# EAGLE library part XC7A15T-2CSG324C (library fpga)
7 Series FPGA, IC FPGA ARTIX7 210 I/O 324CSBGA Source: Datasheet <http://www.xilinx.com/support/documentation/data_sheets/ds180_7Series_Overview.pdf>
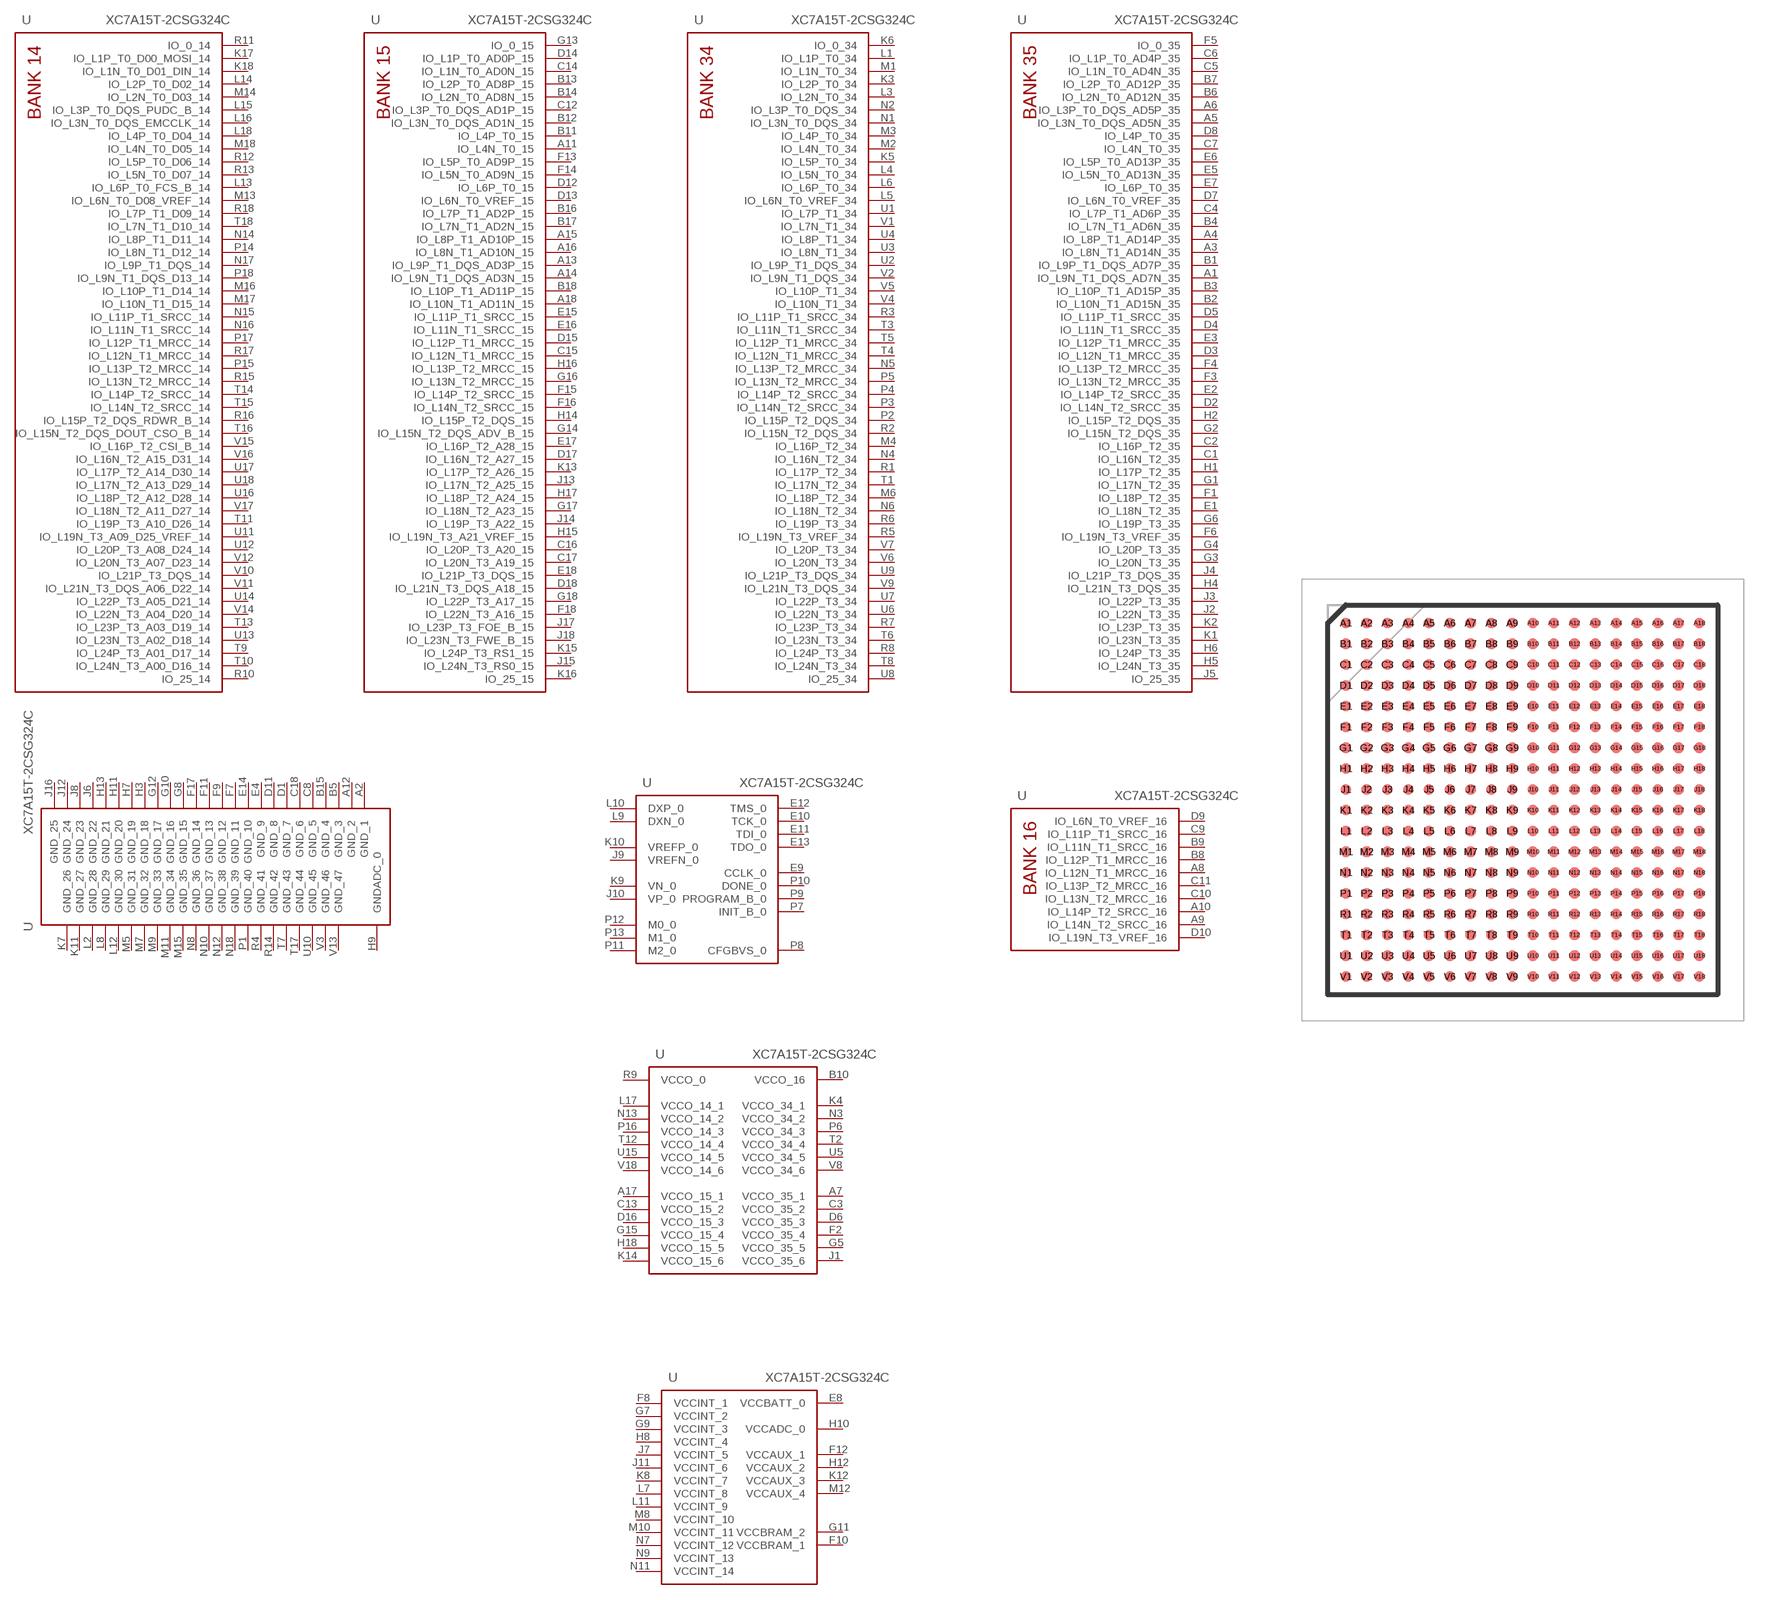
[diagram p3: symbol with the pads of BGA324C80P18X18_1500X1500X150; footprint BGA324C80P18X18_1500X1500X150]

Designator prefix U

## XC7A15T-2CSG324C (DESCRIPTION: 7 Series FPGA, IC FPGA ARTIX7 210 I/O 324CSBGA; HEIGHT: 1.5mm; MANUFACTURER_NAME: XILINX; MANUFACTURER_PART_NUMBER: XC7A15T-2CSG324C; MOUSER_PART_NUMBER: 217-XC7A15T-2CSG324C; MOUSER_PRICE-STOCK: https://www.mouser.co.uk/ProductDetail/Xilinx/XC7A15T-2CSG324C/?qs=rrS6PyfT74c948tSal%2FbhQ%3D%3D)  [BGA324C80P18X18_1500X1500X150]
A1  IO_L9N_T1_DQS_AD7N_35
A2  GND_1
A3  IO_L8N_T1_AD14N_35
A4  IO_L8P_T1_AD14P_35
A5  IO_L3N_T0_DQS_AD5N_35
A6  IO_L3P_T0_DQS_AD5P_35
A7  VCCO_35_1
A8  IO_L12N_T1_MRCC_16
A9  IO_L14N_T2_SRCC_16
A10  IO_L14P_T2_SRCC_16
A11  IO_L4N_T0_15
A12  GND_2
A13  IO_L9P_T1_DQS_AD3P_15
A14  IO_L9N_T1_DQS_AD3N_15
A15  IO_L8P_T1_AD10P_15
A16  IO_L8N_T1_AD10N_15
A17  VCCO_15_1
A18  IO_L10N_T1_AD11N_15
B1  IO_L9P_T1_DQS_AD7P_35
B2  IO_L10N_T1_AD15N_35
B3  IO_L10P_T1_AD15P_35
B4  IO_L7N_T1_AD6N_35
B5  GND_3
B6  IO_L2N_T0_AD12N_35
B7  IO_L2P_T0_AD12P_35
B8  IO_L12P_T1_MRCC_16
B9  IO_L11N_T1_SRCC_16
B10  VCCO_16
B11  IO_L4P_T0_15
B12  IO_L3N_T0_DQS_AD1N_15
B13  IO_L2P_T0_AD8P_15
B14  IO_L2N_T0_AD8N_15
B15  GND_4
B16  IO_L7P_T1_AD2P_15
B17  IO_L7N_T1_AD2N_15
B18  IO_L10P_T1_AD11P_15
C1  IO_L16N_T2_35
C2  IO_L16P_T2_35
C3  VCCO_35_2
C4  IO_L7P_T1_AD6P_35
C5  IO_L1N_T0_AD4N_35
C6  IO_L1P_T0_AD4P_35
C7  IO_L4N_T0_35
C8  GND_5
C9  IO_L11P_T1_SRCC_16
C10  IO_L13N_T2_MRCC_16
C11  IO_L13P_T2_MRCC_16
C12  IO_L3P_T0_DQS_AD1P_15
C13  VCCO_15_2
C14  IO_L1N_T0_AD0N_15
C15  IO_L12N_T1_MRCC_15
C16  IO_L20P_T3_A20_15
C17  IO_L20N_T3_A19_15
C18  GND_6
D1  GND_7
D2  IO_L14N_T2_SRCC_35
D3  IO_L12N_T1_MRCC_35
D4  IO_L11N_T1_SRCC_35
D5  IO_L11P_T1_SRCC_35
D6  VCCO_35_3
D7  IO_L6N_T0_VREF_35
D8  IO_L4P_T0_35
D9  IO_L6N_T0_VREF_16
D10  IO_L19N_T3_VREF_16
D11  GND_8
D12  IO_L6P_T0_15
D13  IO_L6N_T0_VREF_15
D14  IO_L1P_T0_AD0P_15
D15  IO_L12P_T1_MRCC_15
D16  VCCO_15_3
D17  IO_L16N_T2_A27_15
D18  IO_L21N_T3_DQS_A18_15
E1  IO_L18N_T2_35
E2  IO_L14P_T2_SRCC_35
E3  IO_L12P_T1_MRCC_35
E4  GND_9
E5  IO_L5N_T0_AD13N_35
E6  IO_L5P_T0_AD13P_35
E7  IO_L6P_T0_35
E8  VCCBATT_0
E9  CCLK_0
E10  TCK_0
E11  TDI_0
E12  TMS_0
E13  TDO_0
E14  GND_10
E15  IO_L11P_T1_SRCC_15
E16  IO_L11N_T1_SRCC_15
E17  IO_L16P_T2_A28_15
E18  IO_L21P_T3_DQS_15
F1  IO_L18P_T2_35
F2  VCCO_35_4
F3  IO_L13N_T2_MRCC_35
F4  IO_L13P_T2_MRCC_35
F5  IO_0_35
F6  IO_L19N_T3_VREF_35
F7  GND_11
F8  VCCINT_1
F9  GND_12
F10  VCCBRAM_1
F11  GND_13
F12  VCCAUX_1
F13  IO_L5P_T0_AD9P_15
F14  IO_L5N_T0_AD9N_15
F15  IO_L14P_T2_SRCC_15
F16  IO_L14N_T2_SRCC_15
F17  GND_14
F18  IO_L22N_T3_A16_15
G1  IO_L17N_T2_35
G2  IO_L15N_T2_DQS_35
G3  IO_L20N_T3_35
G4  IO_L20P_T3_35
G5  VCCO_35_5
G6  IO_L19P_T3_35
G7  VCCINT_2
G8  GND_15
G9  VCCINT_3
G10  GND_16
G11  VCCBRAM_2
G12  GND_17
G13  IO_0_15
G14  IO_L15N_T2_DQS_ADV_B_15
G15  VCCO_15_4
G16  IO_L13N_T2_MRCC_15
G17  IO_L18N_T2_A23_15
G18  IO_L22P_T3_A17_15
H1  IO_L17P_T2_35
H2  IO_L15P_T2_DQS_35
H3  GND_18
H4  IO_L21N_T3_DQS_35
H5  IO_L24N_T3_35
H6  IO_L24P_T3_35
H7  GND_19
H8  VCCINT_4
H9  GNDADC_0
H10  VCCADC_0
H11  GND_20
H12  VCCAUX_2
H13  GND_21
H14  IO_L15P_T2_DQS_15
H15  IO_L19N_T3_A21_VREF_15
H16  IO_L13P_T2_MRCC_15
H17  IO_L18P_T2_A24_15
H18  VCCO_15_5
J1  VCCO_35_6
J2  IO_L22N_T3_35
J3  IO_L22P_T3_35
J4  IO_L21P_T3_DQS_35
J5  IO_25_35
J6  GND_22
J7  VCCINT_5
J8  GND_23
J9  VREFN_0
J10  VP_0
J11  VCCINT_6
J12  GND_24
J13  IO_L17N_T2_A25_15
J14  IO_L19P_T3_A22_15
J15  IO_L24N_T3_RS0_15
J16  GND_25
J17  IO_L23P_T3_FOE_B_15
J18  IO_L23N_T3_FWE_B_15
K1  IO_L23N_T3_35
K2  IO_L23P_T3_35
K3  IO_L2P_T0_34
K4  VCCO_34_1
K5  IO_L5P_T0_34
K6  IO_0_34
K7  GND_26
K8  VCCINT_7
K9  VN_0
K10  VREFP_0
K11  GND_27
K12  VCCAUX_3
K13  IO_L17P_T2_A26_15
K14  VCCO_15_6
K15  IO_L24P_T3_RS1_15
K16  IO_25_15
K17  IO_L1P_T0_D00_MOSI_14
K18  IO_L1N_T0_D01_DIN_14
L1  IO_L1P_T0_34
L2  GND_28
L3  IO_L2N_T0_34
L4  IO_L5N_T0_34
L5  IO_L6N_T0_VREF_34
L6  IO_L6P_T0_34
L7  VCCINT_8
L8  GND_29
L9  DXN_0
L10  DXP_0
L11  VCCINT_9
L12  GND_30
L13  IO_L6P_T0_FCS_B_14
L14  IO_L2P_T0_D02_14
L15  IO_L3P_T0_DQS_PUDC_B_14
L16  IO_L3N_T0_DQS_EMCCLK_14
L17  VCCO_14_1
L18  IO_L4P_T0_D04_14
M1  IO_L1N_T0_34
M2  IO_L4N_T0_34
M3  IO_L4P_T0_34
M4  IO_L16P_T2_34
M5  GND_31
M6  IO_L18P_T2_34
M7  GND_32
M8  VCCINT_10
M9  GND_33
M10  VCCINT_11
M11  GND_34
M12  VCCAUX_4
M13  IO_L6N_T0_D08_VREF_14
M14  IO_L2N_T0_D03_14
M15  GND_35
M16  IO_L10P_T1_D14_14
M17  IO_L10N_T1_D15_14
M18  IO_L4N_T0_D05_14
N1  IO_L3N_T0_DQS_34
N2  IO_L3P_T0_DQS_34
N3  VCCO_34_2
N4  IO_L16N_T2_34
N5  IO_L13P_T2_MRCC_34
N6  IO_L18N_T2_34
N7  VCCINT_12
N8  GND_36
N9  VCCINT_13
N10  GND_37
N11  VCCINT_14
N12  GND_38
N13  VCCO_14_2
N14  IO_L8P_T1_D11_14
N15  IO_L11P_T1_SRCC_14
N16  IO_L11N_T1_SRCC_14
N17  IO_L9P_T1_DQS_14
N18  GND_39
P1  GND_40
P2  IO_L15P_T2_DQS_34
P3  IO_L14N_T2_SRCC_34
P4  IO_L14P_T2_SRCC_34
P5  IO_L13N_T2_MRCC_34
P6  VCCO_34_3
P7  INIT_B_0
P8  CFGBVS_0
P9  PROGRAM_B_0
P10  DONE_0
P11  M2_0
P12  M0_0
P13  M1_0
P14  IO_L8N_T1_D12_14
P15  IO_L13P_T2_MRCC_14
P16  VCCO_14_3
P17  IO_L12P_T1_MRCC_14
P18  IO_L9N_T1_DQS_D13_14
R1  IO_L17P_T2_34
R2  IO_L15N_T2_DQS_34
R3  IO_L11P_T1_SRCC_34
R4  GND_41
R5  IO_L19N_T3_VREF_34
R6  IO_L19P_T3_34
R7  IO_L23P_T3_34
R8  IO_L24P_T3_34
R9  VCCO_0
R10  IO_25_14
R11  IO_0_14
R12  IO_L5P_T0_D06_14
R13  IO_L5N_T0_D07_14
R14  GND_42
R15  IO_L13N_T2_MRCC_14
R16  IO_L15P_T2_DQS_RDWR_B_14
R17  IO_L12N_T1_MRCC_14
R18  IO_L7P_T1_D09_14
T1  IO_L17N_T2_34
T2  VCCO_34_4
T3  IO_L11N_T1_SRCC_34
T4  IO_L12N_T1_MRCC_34
T5  IO_L12P_T1_MRCC_34
T6  IO_L23N_T3_34
T7  GND_43
T8  IO_L24N_T3_34
T9  IO_L24P_T3_A01_D17_14
T10  IO_L24N_T3_A00_D16_14
T11  IO_L19P_T3_A10_D26_14
T12  VCCO_14_4
T13  IO_L23P_T3_A03_D19_14
T14  IO_L14P_T2_SRCC_14
T15  IO_L14N_T2_SRCC_14
T16  IO_L15N_T2_DQS_DOUT_CSO_B_14
T17  GND_44
T18  IO_L7N_T1_D10_14
U1  IO_L7P_T1_34
U2  IO_L9P_T1_DQS_34
U3  IO_L8N_T1_34
U4  IO_L8P_T1_34
U5  VCCO_34_5
U6  IO_L22N_T3_34
U7  IO_L22P_T3_34
U8  IO_25_34
U9  IO_L21P_T3_DQS_34
U10  GND_45
U11  IO_L19N_T3_A09_D25_VREF_14
U12  IO_L20P_T3_A08_D24_14
U13  IO_L23N_T3_A02_D18_14
U14  IO_L22P_T3_A05_D21_14
U15  VCCO_14_5
U16  IO_L18P_T2_A12_D28_14
U17  IO_L17P_T2_A14_D30_14
U18  IO_L17N_T2_A13_D29_14
V1  IO_L7N_T1_34
V2  IO_L9N_T1_DQS_34
V3  GND_46
V4  IO_L10N_T1_34
V5  IO_L10P_T1_34
V6  IO_L20N_T3_34
V7  IO_L20P_T3_34
V8  VCCO_34_6
V9  IO_L21N_T3_DQS_34
V10  IO_L21P_T3_DQS_14
V11  IO_L21N_T3_DQS_A06_D22_14
V12  IO_L20N_T3_A07_D23_14
V13  GND_47
V14  IO_L22N_T3_A04_D20_14
V15  IO_L16P_T2_CSI_B_14
V16  IO_L16N_T2_A15_D31_14
V17  IO_L18N_T2_A11_D27_14
V18  VCCO_14_6

## Footprint BGA324C80P18X18_1500X1500X150 (pad centres in mm)
324 Ball Chip-Scale BGA (CSG324) Package,
smd 0.41 x 0.41: A1 -6.8,6.8; A2 -6,6.8; A3 -5.2,6.8; A4 -4.4,6.8; A5 -3.6,6.8; A6 -2.8,6.8; A7 -2,6.8; A8 -1.2,6.8; A9 -0.4,6.8; A10 0.4,6.8; A11 1.2,6.8; A12 2,6.8; A13 2.8,6.8; A14 3.6,6.8; A15 4.4,6.8; A16 5.2,6.8; A17 6,6.8; A18 6.8,6.8; B1 -6.8,6; B2 -6,6; B3 -5.2,6; B4 -4.4,6; B5 -3.6,6; B6 -2.8,6; B7 -2,6; B8 -1.2,6; B9 -0.4,6; B10 0.4,6; B11 1.2,6; B12 2,6; B13 2.8,6; B14 3.6,6; B15 4.4,6; B16 5.2,6; B17 6,6; B18 6.8,6; C1 -6.8,5.2; C2 -6,5.2; C3 -5.2,5.2; C4 -4.4,5.2; C5 -3.6,5.2; C6 -2.8,5.2; C7 -2,5.2; C8 -1.2,5.2; C9 -0.4,5.2; C10 0.4,5.2; C11 1.2,5.2; C12 2,5.2; C13 2.8,5.2; C14 3.6,5.2; C15 4.4,5.2; C16 5.2,5.2; C17 6,5.2; C18 6.8,5.2; D1 -6.8,4.4; D2 -6,4.4; D3 -5.2,4.4; D4 -4.4,4.4; D5 -3.6,4.4; D6 -2.8,4.4; D7 -2,4.4; D8 -1.2,4.4; D9 -0.4,4.4; D10 0.4,4.4; D11 1.2,4.4; D12 2,4.4; D13 2.8,4.4; D14 3.6,4.4; D15 4.4,4.4; D16 5.2,4.4; D17 6,4.4; D18 6.8,4.4; E1 -6.8,3.6; E2 -6,3.6; E3 -5.2,3.6; E4 -4.4,3.6; E5 -3.6,3.6; E6 -2.8,3.6; E7 -2,3.6; E8 -1.2,3.6; E9 -0.4,3.6; E10 0.4,3.6; E11 1.2,3.6; E12 2,3.6; E13 2.8,3.6; E14 3.6,3.6; E15 4.4,3.6; E16 5.2,3.6; E17 6,3.6; E18 6.8,3.6; F1 -6.8,2.8; F2 -6,2.8; F3 -5.2,2.8; F4 -4.4,2.8; F5 -3.6,2.8; F6 -2.8,2.8; F7 -2,2.8; F8 -1.2,2.8; F9 -0.4,2.8; F10 0.4,2.8; F11 1.2,2.8; F12 2,2.8; F13 2.8,2.8; F14 3.6,2.8; F15 4.4,2.8; F16 5.2,2.8; F17 6,2.8; F18 6.8,2.8; G1 -6.8,2; G2 -6,2; G3 -5.2,2; G4 -4.4,2; G5 -3.6,2; G6 -2.8,2; G7 -2,2; G8 -1.2,2; G9 -0.4,2; G10 0.4,2; G11 1.2,2; G12 2,2; G13 2.8,2; G14 3.6,2; G15 4.4,2; G16 5.2,2; G17 6,2; G18 6.8,2; H1 -6.8,1.2; H2 -6,1.2; H3 -5.2,1.2; H4 -4.4,1.2; H5 -3.6,1.2; H6 -2.8,1.2; H7 -2,1.2; H8 -1.2,1.2; H9 -0.4,1.2; H10 0.4,1.2; H11 1.2,1.2; H12 2,1.2; H13 2.8,1.2; H14 3.6,1.2; H15 4.4,1.2; H16 5.2,1.2; H17 6,1.2; H18 6.8,1.2; J1 -6.8,0.4; J2 -6,0.4; J3 -5.2,0.4; J4 -4.4,0.4; J5 -3.6,0.4; J6 -2.8,0.4; J7 -2,0.4; J8 -1.2,0.4; J9 -0.4,0.4; J10 0.4,0.4; J11 1.2,0.4; J12 2,0.4; J13 2.8,0.4; J14 3.6,0.4; J15 4.4,0.4; J16 5.2,0.4; J17 6,0.4; J18 6.8,0.4; K1 -6.8,-0.4; K2 -6,-0.4; K3 -5.2,-0.4; K4 -4.4,-0.4; K5 -3.6,-0.4; K6 -2.8,-0.4; K7 -2,-0.4; K8 -1.2,-0.4; K9 -0.4,-0.4; K10 0.4,-0.4; K11 1.2,-0.4; K12 2,-0.4; K13 2.8,-0.4; K14 3.6,-0.4; K15 4.4,-0.4; K16 5.2,-0.4; K17 6,-0.4; K18 6.8,-0.4; L1 -6.8,-1.2; L2 -6,-1.2; L3 -5.2,-1.2; L4 -4.4,-1.2; L5 -3.6,-1.2; L6 -2.8,-1.2; L7 -2,-1.2; L8 -1.2,-1.2; L9 -0.4,-1.2; L10 0.4,-1.2; L11 1.2,-1.2; L12 2,-1.2; L13 2.8,-1.2; L14 3.6,-1.2; L15 4.4,-1.2; L16 5.2,-1.2; L17 6,-1.2; L18 6.8,-1.2; M1 -6.8,-2; M2 -6,-2; M3 -5.2,-2; M4 -4.4,-2; M5 -3.6,-2; M6 -2.8,-2; M7 -2,-2; M8 -1.2,-2; M9 -0.4,-2; M10 0.4,-2; M11 1.2,-2; M12 2,-2; M13 2.8,-2; M14 3.6,-2; M15 4.4,-2; M16 5.2,-2; M17 6,-2; M18 6.8,-2; N1 -6.8,-2.8; N2 -6,-2.8; N3 -5.2,-2.8; N4 -4.4,-2.8; N5 -3.6,-2.8; N6 -2.8,-2.8; N7 -2,-2.8; N8 -1.2,-2.8; N9 -0.4,-2.8; N10 0.4,-2.8; N11 1.2,-2.8; N12 2,-2.8; N13 2.8,-2.8; N14 3.6,-2.8; N15 4.4,-2.8; N16 5.2,-2.8; N17 6,-2.8; N18 6.8,-2.8; P1 -6.8,-3.6; P2 -6,-3.6; P3 -5.2,-3.6; P4 -4.4,-3.6; P5 -3.6,-3.6; P6 -2.8,-3.6; P7 -2,-3.6; P8 -1.2,-3.6; P9 -0.4,-3.6; P10 0.4,-3.6; P11 1.2,-3.6; P12 2,-3.6; P13 2.8,-3.6; P14 3.6,-3.6; P15 4.4,-3.6; P16 5.2,-3.6; P17 6,-3.6; P18 6.8,-3.6; R1 -6.8,-4.4; R2 -6,-4.4; R3 -5.2,-4.4; R4 -4.4,-4.4; R5 -3.6,-4.4; R6 -2.8,-4.4; R7 -2,-4.4; R8 -1.2,-4.4; R9 -0.4,-4.4; R10 0.4,-4.4; R11 1.2,-4.4; R12 2,-4.4; R13 2.8,-4.4; R14 3.6,-4.4; R15 4.4,-4.4; R16 5.2,-4.4; R17 6,-4.4; R18 6.8,-4.4; T1 -6.8,-5.2; T2 -6,-5.2; T3 -5.2,-5.2; T4 -4.4,-5.2; T5 -3.6,-5.2; T6 -2.8,-5.2; T7 -2,-5.2; T8 -1.2,-5.2; T9 -0.4,-5.2; T10 0.4,-5.2; T11 1.2,-5.2; T12 2,-5.2; T13 2.8,-5.2; T14 3.6,-5.2; T15 4.4,-5.2; T16 5.2,-5.2; T17 6,-5.2; T18 6.8,-5.2; U1 -6.8,-6; U2 -6,-6; U3 -5.2,-6; U4 -4.4,-6; U5 -3.6,-6; U6 -2.8,-6; U7 -2,-6; U8 -1.2,-6; U9 -0.4,-6; U10 0.4,-6; U11 1.2,-6; U12 2,-6; U13 2.8,-6; U14 3.6,-6; U15 4.4,-6; U16 5.2,-6; U17 6,-6; U18 6.8,-6; V1 -6.8,-6.8; V2 -6,-6.8; V3 -5.2,-6.8; V4 -4.4,-6.8; V5 -3.6,-6.8; V6 -2.8,-6.8; V7 -2,-6.8; V8 -1.2,-6.8; V9 -0.4,-6.8; V10 0.4,-6.8; V11 1.2,-6.8; V12 2,-6.8; V13 2.8,-6.8; V14 3.6,-6.8; V15 4.4,-6.8; V16 5.2,-6.8; V17 6,-6.8; V18 6.8,-6.8